# EAGLE library part DF40HC(3.5)-30DS (library connector)
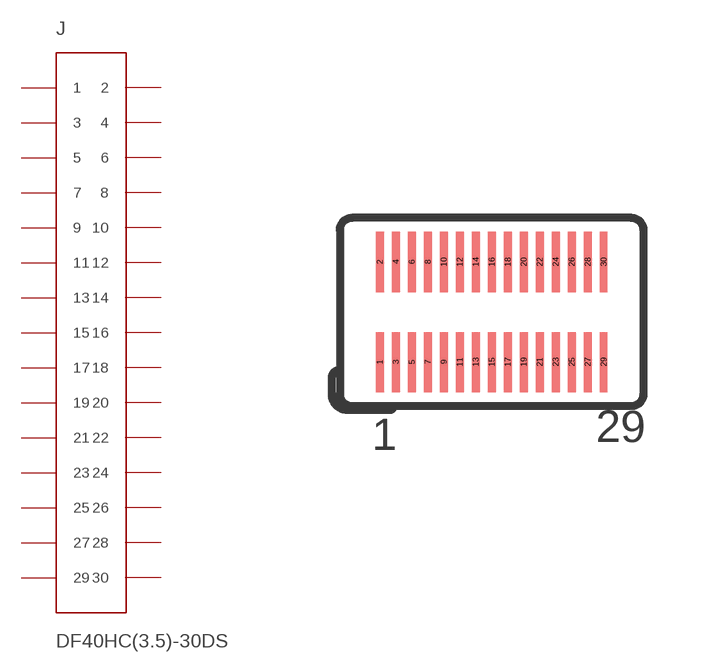
[diagram p13: symbol with the pads of DF40HC-30; footprint DF40HC-30]

Designator prefix J

## DF40HC(3.5)-30DS  [DF40HC-30]
1  1
2  2
3  3
4  4
5  5
6  6
7  7
8  8
9  9
10  10
11  11
12  12
13  13
14  14
15  15
16  16
17  17
18  18
19  19
20  20
21  21
22  22
23  23
24  24
25  25
26  26
27  27
28  28
29  29
30  30

## Footprint DF40HC-30 (pad centres in mm)
smd 0.2 x 1.5: 1 0,0; 2 0,2.5; 3 0.4,0; 4 0.4,2.5; 5 0.8,0; 6 0.8,2.5; 7 1.2,0; 8 1.2,2.5; 9 1.6,0; 10 1.6,2.5; 11 2,0; 12 2,2.5; 13 2.4,0; 14 2.4,2.5; 15 2.8,0; 16 2.8,2.5; 17 3.2,0; 18 3.2,2.5; 19 3.6,0; 20 3.6,2.5; 21 4,0; 22 4,2.5; 23 4.4,0; 24 4.4,2.5; 25 4.8,0; 26 4.8,2.5; 27 5.2,0; 28 5.2,2.5; 29 5.6,0; 30 5.6,2.5